# Altium footprint library Footprints.PcbLib: 111 footprints (part 7 of 7)
Each footprint in its own frame and in the unit in brackets; x right, y up, seen from the top. Pads: shape width x height; smd on the part's side, far side on the other; paste and mask are expansions set on the pad; w line width, h text height; cw(c..) or ccw(c..) is an arc to the next point about the centre after c.
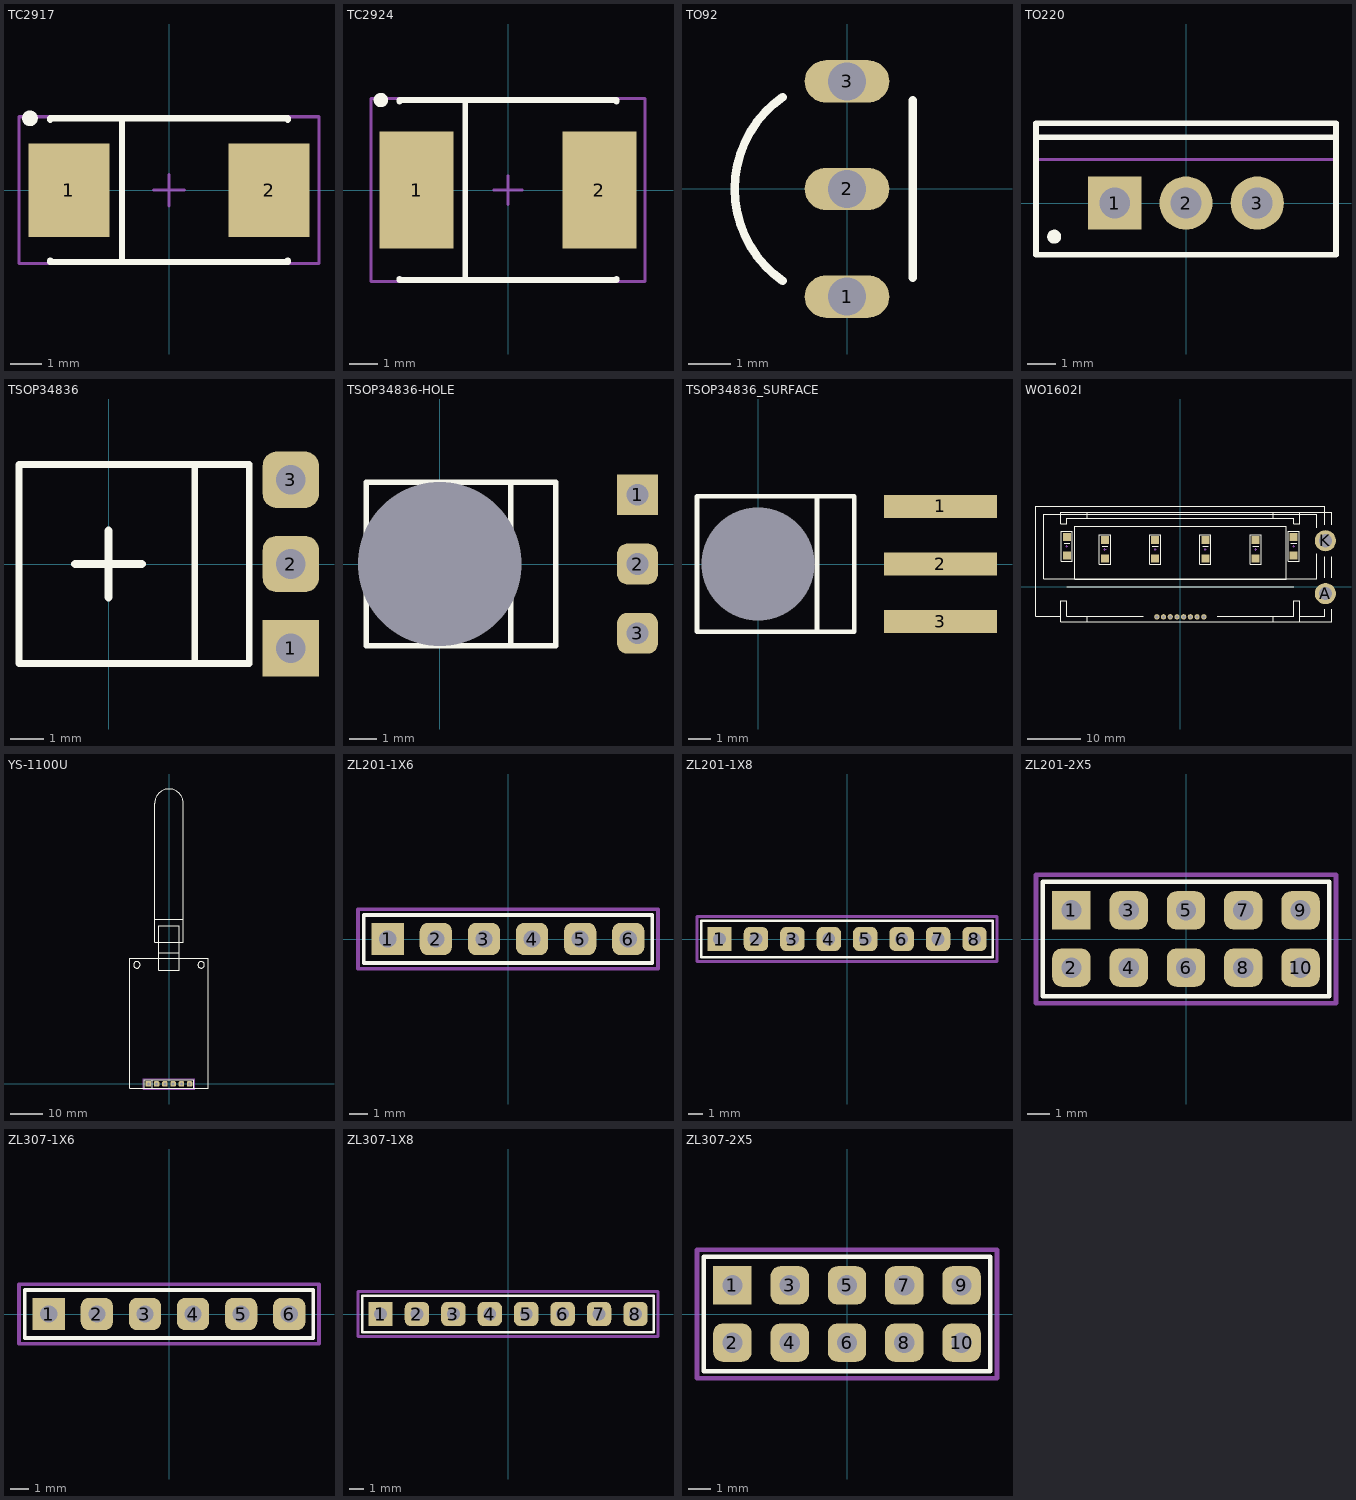
[diagram p6: the footprints below, top view; thin cyan lines are the x and y axes]

## TC2917 [mm] "Capacitor, SM Tantalum; Body 7.3 x 4.3 mm (LxW typ)"
height 3.7
pads (2):
  rect 2.6x3 smd: 1(-3.2,0) 2(3.2,0)
Top Overlay:
  circle w0.25: c-4.45,2.3 r0.125
  lines w0.2: -3.8,-2.25 -3.8,-2.3 3.8,-2.3 3.8,-2.25 ; -3.8,2.25 -3.8,2.3 3.8,2.3 3.8,2.25 ; -1.5,-2.3 -1.5,2.3
Mechanical 3:
  lines w0.1: -0.5,0 0.5,0 ; 0,-0.5 0,0.5 ; -4.8,-2.35 4.8,-2.35 4.8,2.35 -4.8,2.35 -4.8,-2.35
3D body: height 3.7, standoff 0, extent -3.65,-2.15 3.65,2.15

## TC2924 [mm] "Capacitor, SM Tantalum; Body 7.3 x 6.0 mm (LxW typ)"
height 3.8
pads (2):
  rect 2.6x4.1 smd: 1(-3.2,0) 2(3.2,0)
Top Overlay:
  circle w0.25: c-4.45,3.15 r0.125
  lines w0.2: -3.8,-3.1 -3.8,-3.15 3.8,-3.15 3.8,-3.1 ; -3.8,3.1 -3.8,3.15 3.8,3.15 3.8,3.1 ; -1.5,-3.15 -1.5,3.15
Mechanical 3:
  lines w0.1: -0.5,0 0.5,0 ; 0,-0.5 0,0.5 ; -4.8,-3.2 4.8,-3.2 4.8,3.2 -4.8,3.2 -4.8,-3.2
3D body: height 3.8, standoff 0, extent -3.65,-3 3.65,3

## TO92 [mm] "TO, Flat Index; 3 In-Line, Axial Leads; Body Dia. 4.8mm; Leads 0.51 x 0.51 mm (max)"
height 5.33
pads (3):
  oval 2x1 hole 0.9: 1(0,-2.54) 2(0,0) 3(0,2.54)
Top Overlay:
  lines w0.2: -1.52,-2.171 cw(c0,0) -1.52,2.171 ; 1.55,-2.1 1.55,2.1

## TO220 [mm] "TO, Thru-Hole, Vertical, Heatsink Mounted; 3 In-Line Leads; Pitch 2.54 mm"
height 19.4
pads (3):
  rect 1.9x1.9 hole 1.1: 1(-2.54,0)
  round 1.9 hole 1.1: 2(0,0) 3(2.54,0)
Top Overlay:
  circle w0.25: c-4.7,-1.2 r0.125
  lines w0.2: -5.35,2.35 5.35,2.35 ; -5.35,-1.85 -5.35,2.85 5.35,2.85 5.35,-1.85 -5.35,-1.85
Mechanical 1:
  lines w0.1: -5.35,1.55 5.35,1.55 ; -5.35,-1.85 5.35,-1.85 5.35,2.85 -5.35,2.85 -5.35,-1.85
Mechanical 3:
  lines w0.1: -0.5,0 0.5,0 ; 0,-0.5 0,0.5
3D body: height 12.9, standoff 4, extent -5.4,-1.9 5.4,2.9
3D body: height 19.4, standoff 12.9, extent -5.349,1.551 5.349,2.849
3D body: height 4, standoff 0, extent -2.938,-0.399 -2.141,0.399
3D body: height 4, standoff 0, extent -0.398,-0.399 0.399,0.399
3D body: height 4, standoff 0, extent 2.142,-0.399 2.939,0.399

## TSOP34836 [mm] "IR-Receiver"
height 5.6
pads (3):
  rect 1.7x1.7 hole 0.9: 1(5.5,-2.54)
  rrect50% 1.7x1.7 hole 0.9: 2(5.5,0) 3(5.5,2.54)
Top Overlay:
  lines w0.2: 2.6,-3 2.6,3 ; -2.7,-3 4.25,-3 4.25,3 -2.7,3 -2.7,-3
  lines w0.254: -1,0 1,0 ; 0,-1 0,1
3D body: height 4.1, standoff 0, extent -2.7,-3 4.25,3
3D body: height 5.8, standoff 0.8, extent -2.496,-2.498 2.478,2.481
3D body: height 0.55, standoff -0.05, extent 4.25,-2.84 5.5,-2.241
3D body: height 0.55, standoff -0.05, extent 4.25,-0.3 5.5,0.299
3D body: height 0.55, standoff -0.05, extent 4.25,2.24 5.5,2.839

## TSOP34836-HOLE [mm] "IR-Receiver"
height 5.6
pads (4):
  round 0 hole 6 unplated: 0(0,0)
  rect 1.5x1.5 hole 0.8: 1(7.25,2.54)
  rrect50% 1.5x1.5 hole 0.8: 2(7.25,0) 3(7.25,-2.54)
Top Overlay:
  lines w0.2: 2.6,-3 2.6,3 ; -2.7,-3 4.25,-3 4.25,3 -2.7,3 -2.7,-3
3D body: height 4.1, standoff 0, extent -2.7,-3 4.25,3
3D body: height 3.3, standoff -1.7, extent -2.496,-2.498 2.478,2.481
3D body: height 0.55, standoff -0.05, extent 4.25,-2.84 7.25,-2.241
3D body: height 0.55, standoff -0.05, extent 4.25,-0.3 7.25,0.299
3D body: height 0.55, standoff -0.05, extent 4.25,2.24 7.25,2.839

## TSOP34836_SURFACE [mm] "IR-Receiver"
height 5.6
pads (4):
  round 0 hole 5 unplated: 0(0,0)
  rect 5x1 smd: 1(8.05,2.54) 2(8.05,0) 3(8.05,-2.54)
Top Overlay:
  lines w0.2: 2.6,-3 2.6,3 ; -2.7,-3 4.25,-3 4.25,3 -2.7,3 -2.7,-3
3D body: height 4.1, standoff 0, extent -2.7,-3 4.25,3
3D body: height 3.3, standoff -1.7, extent -2.496,-2.498 2.478,2.481
3D body: height 0.55, standoff -0.05, extent 4.25,-2.84 10.25,-2.241
3D body: height 0.55, standoff -0.05, extent 4.25,-0.3 10.25,0.299
3D body: height 0.55, standoff -0.05, extent 4.25,2.24 10.25,2.839

## WO1602I [mm] "LCD COG display 16x02 VA(I)=40x10mm with backlight (ext VA(H)=51.5x12.2mm)"
height 2.8
pads (22):
  round 1 hole 0.6: 1(-4.445,-5.65) 2(-3.175,-5.65) 3(-1.905,-5.65) 4(-0.635,-5.65) 5(0.635,-5.65) 6(1.905,-5.65) 7(3.175,-5.65) 8(4.445,-5.65)
  round 4 hole 2.5: A(27.45,-1.25) K(27.45,8.75)
  rect 1.5x1.5 smd: A1(-21.45,5.95) A2(-14.25,5.35) A3(-4.75,5.35) A4(4.75,5.35) A5(14.25,5.35) A6(21.45,5.95) K1(-21.45,9.45) K2(-14.25,8.85) K3(-4.75,8.85) K4(4.75,8.85) K5(14.25,8.85) K6(21.45,9.45)
Top Overlay:
  lines w0.1: -22.6,-5.5 -27.3,-5.5 -27.3,15.3 27.3,15.3 27.3,11.75 ; 22.6,-5.5 27.3,-5.5 27.3,-4.25 ; 25.8,6.25 25.8,1.6 -25.8,1.6 -25.8,13.8 25.8,13.8 25.8,11.25 ; 27.3,1.75 27.3,5.75
  lines w0.2: -22,8.3 -20.9,8.3 ; -21.5,0 21.5,0 ; -17.6,-6.6 -17.6,-5.5 ; -17.6,13 -17.6,14.1 ; -14.8,7.7 -13.7,7.7 ; -7,-5.5 -21.5,-5.5 -21.5,-2.6 -22.6,-2.6 -22.6,-6.6 22.6,-6.6 ; -5.3,7.7 -4.2,7.7 ; 4.2,7.7 5.3,7.7 ; 7,-5.5 21.5,-5.5 21.5,-2.6 22.6,-2.6 22.6,-6.6 ; 13.7,7.7 14.8,7.7 ; 17.6,-6.6 17.6,-5.5 ; 17.6,13 17.6,14.1 ; 20.9,8.3 22,8.3 ; 28.6,-4.25 28.6,-6.6 22.6,-6.6 ; 28.6,1.75 28.6,5.75 ; 28.6,11.75 28.6,14.1 22.6,14.1 ; 22.6,14.1 -22.6,14.1 -22.6,12 -21.5,12 -21.5,13 21.5,13 21.5,12 22.6,12 22.6,14.1 ; -22.5,4.9 -22.5,10.5 -20.4,10.5 -20.4,4.9 -22.5,4.9 ; -20,1.5 -20,11.5 20,11.5 20,1.5 -20,1.5 ; -15.3,4.3 -15.3,9.9 -13.2,9.9 -13.2,4.3 -15.3,4.3 ; -5.8,4.3 -5.8,9.9 -3.7,9.9 -3.7,4.3 -5.8,4.3 ; 3.7,4.3 3.7,9.9 5.8,9.9 5.8,4.3 3.7,4.3 ; 13.2,4.3 13.2,9.9 15.3,9.9 15.3,4.3 13.2,4.3 ; 20.4,4.9 20.4,10.5 22.5,10.5 22.5,4.9 20.4,4.9
Mechanical 1:
  lines w0.1: -21.65,7.7 -21.25,7.7 ; -21.45,7.5 -21.45,7.9 ; -14.45,7.1 -14.05,7.1 ; -14.25,6.9 -14.25,7.3 ; -4.95,7.1 -4.55,7.1 ; -4.75,6.9 -4.75,7.3 ; 4.55,7.1 4.95,7.1 ; 4.75,6.9 4.75,7.3 ; 14.05,7.1 14.45,7.1 ; 14.25,6.9 14.25,7.3 ; 21.25,7.7 21.65,7.7 ; 21.45,7.5 21.45,7.9
3D body: height 6.3, standoff 3.5, extent 17.6,12 22.6,14.1
3D body: height 3.5, standoff 3.4, extent -22.6,-6.6 28.62,14.1
3D body: height 3.5, standoff -3, extent 26.458,-2.248 28.45,-0.252
3D body: height 3.5, standoff -3, extent 26.458,7.752 28.45,9.748
3D body: height 4.2, standoff 3.5, extent -21.5,-5.5 21.5,13
3D body: height 6.3, standoff 4.2, extent -21.5,0 21.5,13
3D body: height 4.9, standoff -3, extent -4.643,-5.85 -4.245,-5.45
3D body: height 4.9, standoff -3, extent -3.373,-5.85 -2.975,-5.45
3D body: height 4.9, standoff -3, extent -2.103,-5.85 -1.705,-5.45
3D body: height 4.9, standoff -3, extent -0.833,-5.85 -0.435,-5.45
3D body: height 4.9, standoff -3, extent 0.437,-5.85 0.835,-5.45
3D body: height 4.9, standoff -3, extent 1.707,-5.85 2.105,-5.45
3D body: height 4.9, standoff -3, extent 2.977,-5.85 3.375,-5.45
3D body: height 4.9, standoff -3, extent 4.247,-5.85 4.645,-5.45
3D body: height 6.3, standoff 3.5, extent -22.6,12 -17.6,14.1
3D body: height 6.3, standoff 3.5, extent -22.6,-6.6 -17.6,-2.6
3D body: height 6.3, standoff 3.5, extent 17.6,-6.6 22.6,-2.6
3D body: height 1.1, standoff 0, extent 3.95,5.5 5.55,8.7
3D body: height 1.1, standoff 0, extent -5.55,5.5 -3.95,8.7
3D body: height 1.1, standoff 0, extent 13.45,5.5 15.05,8.7
3D body: height 1.1, standoff 0, extent -15.05,5.5 -13.45,8.7
3D body: height 1.1, standoff 0, extent 20.65,6.1 22.25,9.3
3D body: height 1.1, standoff 0, extent -22.25,6.1 -20.65,9.3

## YS-1100U [mm] "YS-1100U; Pitch 2.54"
height 8.5
pads (6):
  rect 1.7x1.7 hole 0.9: 1(-6.35,0)
  rrect50% 1.7x1.7 hole 0.9: 2(-3.81,0) 3(-1.27,0) 4(1.27,0) 5(3.81,0) 6(6.35,0)
Top Overlay:
  circle w0.2: c-9.9,36.63 r1
  circle w0.2: c9.9,36.63 r1
  lines w0.2: -7.62,-1.27 -7.62,1.27 7.62,1.27 7.62,-1.27 ; -5.08,-1.27 -5.08,1.27 ; -4.44,50.62 4.34,50.62 ; -3.1,40.33 -3.1,48.73 3.1,48.73 3.1,40.33 ; -12,-1.27 -12,38.73 12,38.73 12,-1.27 -12,-1.27 ; -4.44,43.64 4.44,43.64 4.44,86.29 ccw(c0,86.29) -4.44,86.29 -4.44,43.64 ; -3.22,34.91 -3.22,40.33 3.22,40.33 3.22,34.91 -3.22,34.91
Mechanical 3:
  lines w0.2: -7.92,-1.57 7.92,-1.57 7.92,1.57 -7.92,1.57 -7.92,-1.57
3D body: height 8.58, standoff -0.3, extent -4.411,81.959 4.422,90.801
3D body: height 8.57, standoff -0.29, extent -4.422,50.62 4.422,86.38
3D body: height 8.57, standoff -0.29, extent -4.422,43.64 4.422,50.62
3D body: height 7.23, standoff 1.05, extent -3.088,38.73 3.088,48.73
3D body: height 2.54, standoff 0, extent -8.84,-0.14 6.4,2.4
3D body: height 5.54, standoff -1.7, extent -6.669,-0.319 -6.031,0.319
3D body: height 5.54, standoff -1.7, extent -4.129,-0.319 -3.491,0.319
3D body: height 5.54, standoff -1.7, extent -1.589,-0.319 -0.951,0.319
3D body: height 5.54, standoff -1.7, extent 0.951,-0.319 1.589,0.319
3D body: height 5.54, standoff -1.7, extent 3.491,-0.319 4.129,0.319
3D body: height 5.54, standoff -1.7, extent 6.031,-0.319 6.669,0.319
3D body: height 8.5, standoff 1.6, extent -12,-1.27 12,38.73
3D body: height 7.38, standoff 0.9, extent -3.22,34.91 3.22,40.33

## ZL201-1X6 [mm] "ZL201-1X6; Pitch 2.54"
height 8.54
pads (6):
  rect 1.7x1.7 hole 0.9: 1(-6.35,0)
  rrect50% 1.7x1.7 hole 0.9: 2(-3.81,0) 3(-1.27,0) 4(1.27,0) 5(3.81,0) 6(6.35,0)
Top Overlay:
  lines w0.2: -7.62,-1.27 -7.62,1.27 7.62,1.27 7.62,-1.27 -7.62,-1.27
Mechanical 3:
  lines w0.2: -7.92,-1.57 7.92,-1.57 7.92,1.57 -7.92,1.57 -7.92,-1.57
3D body: height 2.54, standoff 0, extent -7.62,-1.27 7.62,1.27
3D body: height 8.54, standoff -3, extent -6.669,-0.319 -6.031,0.319
3D body: height 8.54, standoff -3, extent -4.129,-0.319 -3.491,0.319
3D body: height 8.54, standoff -3, extent -1.589,-0.319 -0.951,0.319
3D body: height 8.54, standoff -3, extent 0.951,-0.319 1.589,0.319
3D body: height 8.54, standoff -3, extent 3.491,-0.319 4.129,0.319
3D body: height 8.54, standoff -3, extent 6.031,-0.319 6.669,0.319

## ZL201-1X8 [mm] "ZL201-1X8; Pitch 2.54"
height 8.54
pads (8):
  rect 1.7x1.7 hole 0.9: 1(-8.89,0)
  rrect50% 1.7x1.7 hole 0.9: 2(-6.35,0) 3(-3.81,0) 4(-1.27,0) 5(1.27,0) 6(3.81,0) 7(6.35,0) 8(8.89,0)
Top Overlay:
  lines w0.2: -10.16,-1.27 -10.16,1.27 10.16,1.27 10.16,-1.27 -10.16,-1.27
Mechanical 3:
  lines w0.2: -10.46,-1.57 10.46,-1.57 10.46,1.57 -10.46,1.57 -10.46,-1.57
3D body: height 2.54, standoff 0, extent -10.16,-1.27 10.16,1.27
3D body: height 8.54, standoff -3, extent -9.209,-0.319 -8.571,0.319
3D body: height 8.54, standoff -3, extent -6.669,-0.319 -6.031,0.319
3D body: height 8.54, standoff -3, extent -4.129,-0.319 -3.491,0.319
3D body: height 8.54, standoff -3, extent -1.589,-0.319 -0.951,0.319
3D body: height 8.54, standoff -3, extent 0.951,-0.319 1.589,0.319
3D body: height 8.54, standoff -3, extent 3.491,-0.319 4.129,0.319
3D body: height 8.54, standoff -3, extent 6.031,-0.319 6.669,0.319
3D body: height 8.54, standoff -3, extent 8.571,-0.319 9.209,0.319

## ZL201-2X5 [mm] "ZL201-2X5; Pitch 2.54"
height 8.54
pads (10):
  rect 1.7x1.7 hole 0.9: 1(-5.08,1.27)
  rrect50% 1.7x1.7 hole 0.9: 2(-5.08,-1.27) 3(-2.54,1.27) 4(-2.54,-1.27) 5(0,1.27) 6(0,-1.27) 7(2.54,1.27) 8(2.54,-1.27) 9(5.08,1.27) 10(5.08,-1.27)
Top Overlay:
  lines w0.2: -6.35,-2.54 6.35,-2.54 6.35,2.54 -6.35,2.54 -6.35,-2.54
Mechanical 3:
  lines w0.2: -6.65,-2.84 -6.65,2.84 6.65,2.84 6.65,-2.84 -6.65,-2.84
3D body: height 8.54, standoff -3, extent 2.221,0.951 2.859,1.589
3D body: height 8.54, standoff -3, extent 2.221,-1.589 2.859,-0.951
3D body: height 8.54, standoff -3, extent -0.319,0.951 0.319,1.589
3D body: height 8.54, standoff -3, extent -0.319,-1.589 0.319,-0.951
3D body: height 8.54, standoff -3, extent -2.859,0.951 -2.221,1.589
3D body: height 8.54, standoff -3, extent -2.859,-1.589 -2.221,-0.951
3D body: height 8.54, standoff -3, extent -5.399,-1.589 -4.761,-0.951
3D body: height 8.54, standoff -3, extent -5.399,0.951 -4.761,1.589
3D body: height 2.54, standoff 0, extent -6.35,-2.57 6.35,2.54
3D body: height 8.54, standoff -3, extent 4.761,-1.589 5.399,-0.951
3D body: height 8.54, standoff -3, extent 4.761,0.951 5.399,1.589

## ZL307-1X6 [mm] "ZL307-1X6; Pitch 2.54"
height 7
pads (6):
  rect 1.7x1.7 hole 0.9: 1(-6.35,0)
  rrect50% 1.7x1.7 hole 0.9: 2(-3.81,0) 3(-1.27,0) 4(1.27,0) 5(3.81,0) 6(6.35,0)
Top Overlay:
  lines w0.2: -7.62,-1.27 7.62,-1.27 7.62,1.27 -7.62,1.27 -7.62,-1.27
Mechanical 3:
  lines w0.2: -7.92,-1.57 -7.92,1.57 7.92,1.57 7.92,-1.57 -7.92,-1.57
3D body: height 7, standoff 0, extent -7.62,-1.27 7.62,1.27

## ZL307-1X8 [mm] "ZL307-1X8; Pitch 2.54"
height 7
pads (8):
  rect 1.7x1.7 hole 0.9: 1(-8.89,0)
  rrect50% 1.7x1.7 hole 0.9: 2(-6.35,0) 3(-3.81,0) 4(-1.27,0) 5(1.27,0) 6(3.81,0) 7(6.35,0) 8(8.89,0)
Top Overlay:
  lines w0.2: -10.16,-1.27 10.16,-1.27 10.16,1.27 -10.16,1.27 -10.16,-1.27
Mechanical 3:
  lines w0.2: -10.46,-1.57 -10.46,1.57 10.46,1.57 10.46,-1.57 -10.46,-1.57
3D body: height 7, standoff 0, extent -10.16,-1.27 10.16,1.27

## ZL307-2X5 [mm] "ZL307-2X5; Pitch 2.54"
height 7
pads (10):
  rect 1.7x1.7 hole 0.9: 1(-5.08,1.27)
  rrect50% 1.7x1.7 hole 0.9: 2(-5.08,-1.27) 3(-2.54,1.27) 4(-2.54,-1.27) 5(0,1.27) 6(0,-1.27) 7(2.54,1.27) 8(2.54,-1.27) 9(5.08,1.27) 10(5.08,-1.27)
Top Overlay:
  lines w0.2: -6.35,-2.54 -6.35,2.54 6.35,2.54 6.35,-2.54 -6.35,-2.54
Mechanical 3:
  lines w0.2: -6.65,-2.84 6.65,-2.84 6.65,2.84 -6.65,2.84 -6.65,-2.84
3D body: height 7, standoff 0, extent -6.35,-2.57 6.35,2.54